# EAGLE library part MPU-6050 (library MPU-6050)
MPU-6050 Six-Axis (Gyro + Accelerometer) MEMS MotionTracking™ Devices
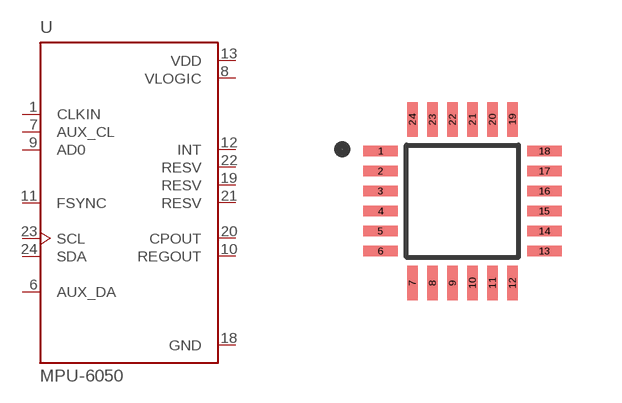
[diagram p0: symbol with the pads of QFN50P400X400X95-24N; footprint QFN50P400X400X95-24N]

Designator prefix U

## MPU-6050 (AVAILABILITY: Unavailable; DESCRIPTION: 3-axis gyroscope, 3-axis accelerometer in a 4x4x0.9 housing; MF: TDK InvenSense; MP: MPU-6050; PACKAGE: QFN-24 InvenSense; PRICE: None)  [QFN50P400X400X95-24N]
1  CLKIN  in
6  AUX_DA
7  AUX_CL  in
8  VLOGIC  pwr
9  AD0  in
10  REGOUT  pas
11  FSYNC  in
12  INT  out
13  VDD  pwr
18  GND  pwr
19  RESV  pas
20  CPOUT  pas
21  RESV  pas
22  RESV  pas
23  SCL  in
24  SDA

## Footprint QFN50P400X400X95-24N (pad centres in mm)
smd 0.866 x 0.26: 1 -2.046,1.25; 2 -2.046,0.75; 3 -2.046,0.25; 4 -2.046,-0.25; 5 -2.046,-0.75; 6 -2.046,-1.25; 13 2.046,-1.25; 14 2.046,-0.75; 15 2.046,-0.25; 16 2.046,0.25; 17 2.046,0.75; 18 2.046,1.25
smd 0.26 x 0.866: 7 -1.25,-2.046; 8 -0.75,-2.046; 9 -0.25,-2.046; 10 0.25,-2.046; 11 0.75,-2.046; 12 1.25,-2.046; 19 1.25,2.046; 20 0.75,2.046; 21 0.25,2.046; 22 -0.25,2.046; 23 -0.75,2.046; 24 -1.25,2.046